# Altium integrated library BTL_Project.IntLib: 33 symbols
Pins are listed as number, name and electrical type; pins without a type are passive.

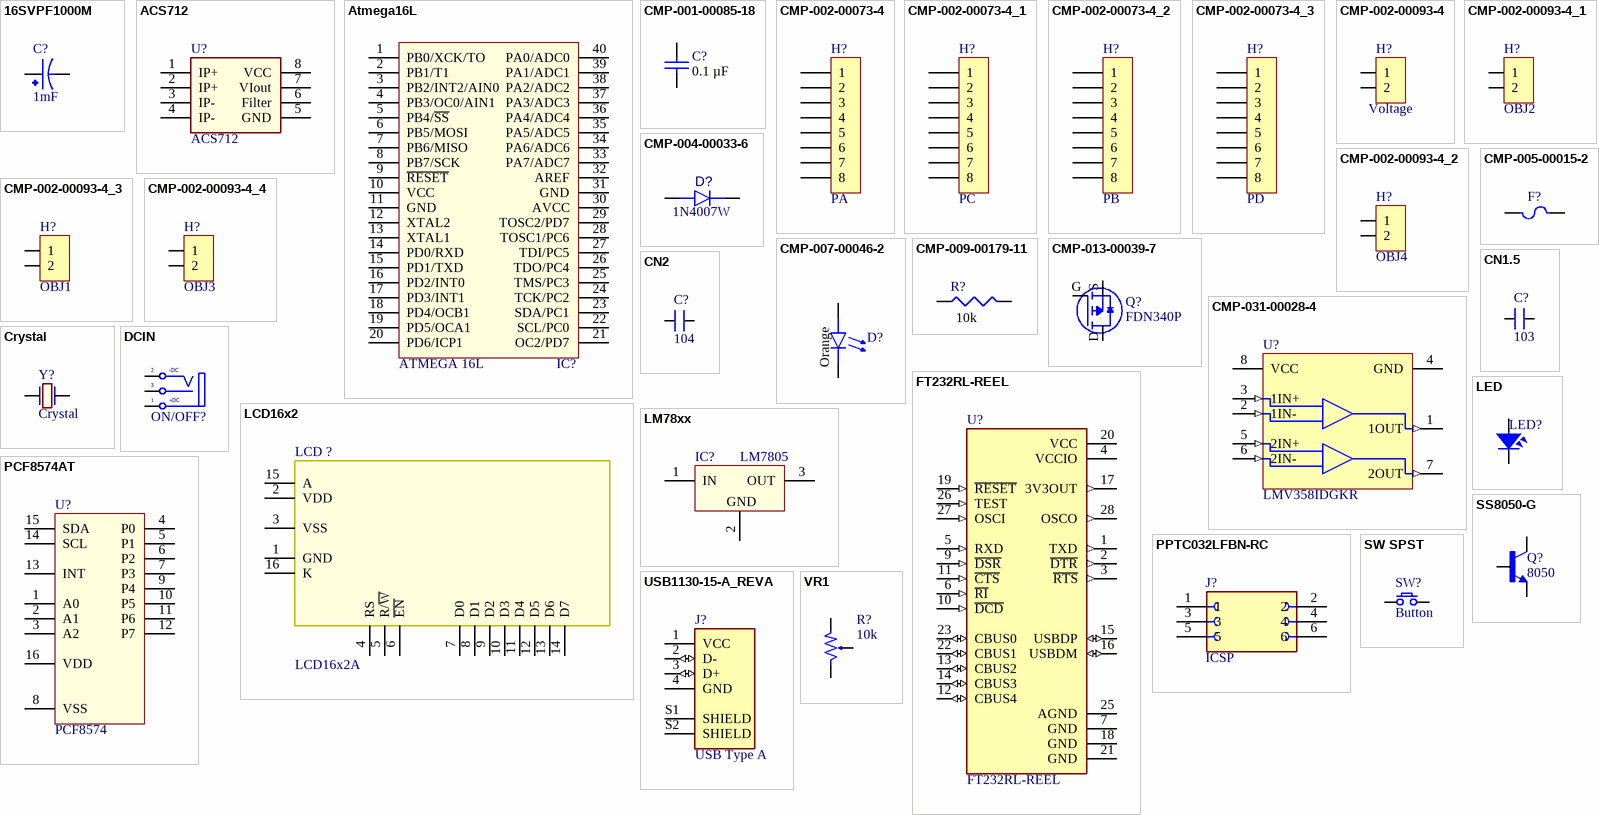
[diagram p0: symbols 16SVPF1000M to VR1]

## 16SVPF1000M
designator C?, comment 1mF
MP: 16SVPF1000M; Package: None; Availability: Unavailable; Price: None; Value: *
footprint CAP_16SVPF1000M
pins: 1, 2

## ACS712
designator U?
Fully Integrated, Hall Effect-Based Linear Current Sensor IC   with 2.1 kVRMS Isolation and a Low-Resistance Current Conductor
footprint SOIC-8 (SOIC, 8-Leads, Body 5.0x4.0mm (max), Pitch 1.27mm, IPC Medium Density)
pins: 1 IP+, 2 IP+, 3 IP-, 4 IP-, 5 GND, 6 Filter, 7 VIout, 8 VCC

## Atmega16L
designator IC?, comment ATMEGA 16L
8-Bit AVR Microcontroller with 16K Bytes of In-System Programmable Flash Memory; Value: Atmega 16L
footprint DIP40/W0.6 (40 PIN, W 600mil, Pin to pin 100mil)
pins: 1 PB0/XCK/TO, 2 PB1/T1, 3 PB2/INT2/AIN0, 4 PB3/OC0/AIN1, 5 PB4/~{SS}, 6 PB5/MOSI, 7 PB6/MISO, 8 PB7/SCK, 9 ~{RESET}, 10 VCC, 11 GND, 12 XTAL2, 13 XTAL1, 14 PD0/RXD, 15 PD1/TXD, 16 PD2/INT0, 17 PD3/INT1, 18 PD4/OCB1, 19 PD5/OCA1, 20 PD6/ICP1, 21 OC2/PD7, 22 SCL/PC0, 23 SDA/PC1, 24 TCK/PC2, 25 TMS/PC3, 26 TDO/PC4, 27 TDI/PC5, 28 TOSC1/PC6, 29 TOSC2/PD7, 30 AVCC, 31 GND, 32 AREF, 33 PA7/ADC7, 34 PA6/ADC6, 35 PA5/ADC5, 36 PA4/ADC4, 37 PA3/ADC3, 38 PA2/ADC2, 39 PA1/ADC1, 40 PA0/ADC0

## CMP-001-00085-18
designator C?, comment Capacitance: 0.1 µF  (hidden comment: Capacitor)
Oreki; Capacitor Type: non-polarity; Voltage - Rated: 16V; Tolerance: ±20%; Pins: 2; ComponentLink1Description: DigiKey; Component Type: Capacitors
footprint 0805 (2012 Metric) (Chip Capacitor, 2-Leads, Body 2.00x1.25mm, IPC Medium Density)
footprint CAPC0603X09N (Chip Capacitor, 2-Leads, Body 1.60x0.80mm, IPC Medium Density)
footprint CAPC0402X06N (Chip Capacitor, 2-Leads, Body 1.00x0.50mm, IPC Medium Density)
footprint 1206 (3216 Metric) (Chip Capacitor, 2-Leads, Body 3.25x1.60mm, IPC Medium Density)
pins: 1, 2

## CMP-002-00073-4
designator H?, comment PA
Oreki; ComponentLink1Description: DigiKey; ComponentLink2Description: thegioiic; Pins: 8; Component Type: Connectors
footprint male header 1x8-Footprint-1
footprint Female, Through Hole, Pitch 2.54mm
pins: 1, 2, 3, 4, 5, 6, 7, 8

## CMP-002-00073-4_1
designator H?, comment PC
Oreki; ComponentLink1Description: DigiKey; ComponentLink2Description: thegioiic; Pins: 8; Component Type: Connectors
footprint male header 1x8-Footprint-1
footprint Female, Through Hole, Pitch 2.54mm
pins: 1, 2, 3, 4, 5, 6, 7, 8

## CMP-002-00073-4_2
designator H?, comment PB
Oreki; ComponentLink1Description: DigiKey; ComponentLink2Description: thegioiic; Pins: 8; Component Type: Connectors
footprint male header 1x8-Footprint-1
footprint Female, Through Hole, Pitch 2.54mm
pins: 1, 2, 3, 4, 5, 6, 7, 8

## CMP-002-00073-4_3
designator H?, comment PD
Oreki; ComponentLink1Description: DigiKey; ComponentLink2Description: thegioiic; Pins: 8; Component Type: Connectors
footprint male header 1x8-Footprint-1
footprint Female, Through Hole, Pitch 2.54mm
pins: 1, 2, 3, 4, 5, 6, 7, 8

## CMP-002-00093-4
designator H?, comment Voltage
Oreki; ComponentLink1Description: DigiKey; ComponentLink2Description: thegioiic; Component Type: Connectors
footprint Barrier Block, Pitch 9.5mm
footprint Wire to Board, Pitch 5.00mm
pins: 1, 2

## CMP-002-00093-4_1
designator H?, comment OBJ2
Oreki; ComponentLink1Description: DigiKey; ComponentLink2Description: thegioiic; Component Type: Connectors
footprint Barrier Block, Pitch 9.5mm
footprint Wire to Board, Pitch 5.00mm
pins: 1, 2

## CMP-002-00093-4_2
designator H?, comment OBJ4
Oreki; ComponentLink1Description: DigiKey; ComponentLink2Description: thegioiic; Component Type: Connectors
footprint Barrier Block, Pitch 9.5mm
footprint Wire to Board, Pitch 5.00mm
pins: 1, 2

## CMP-002-00093-4_3
designator H?, comment OBJ1
Oreki; ComponentLink1Description: DigiKey; ComponentLink2Description: thegioiic; Component Type: Connectors
footprint Barrier Block, Pitch 9.5mm
footprint Wire to Board, Pitch 5.00mm
pins: 1, 2

## CMP-002-00093-4_4
designator H?, comment OBJ3
Oreki; ComponentLink1Description: DigiKey; ComponentLink2Description: thegioiic; Component Type: Connectors
footprint Barrier Block, Pitch 9.5mm
footprint Wire to Board, Pitch 5.00mm
pins: 1, 2

## CMP-004-00033-6
designator D?, comment Part Number: 1N4007W  (hidden comment: Diode)
Oreki; Current - Average Rectified (Io): 1A; Capacitance @ Vr, F: 15pF @ 4V, 1MHz; Voltage - DC Reverse (Vr) (Max): 1000 V; Voltage - Forward (Vf) (Max) @ If: 1.1 V @ 1 A; ComponentLink1Description: DigiKey; JLCPCB Part #: C108803; Component Type: Diodes
footprint SOD-80 (MELF Diode, 2-Leads, Body 3.45x1.40mm, IPC Medium Density)
footprint DO-214AC, SMA (Molded Diode, 2-Leads, Body 4.25x2.55mm, IPC Medium Density)
footprint DO-204AL, DO-41, Axial (SODFL, 2-Leads, Body 1.80x3.65mm, IPC Medium Density)
pins: 1 K, 2 A

## CMP-005-00015-2
designator F?, comment Fuse  (value not drawn)
Oreki; Part Number: MF-MSMF050-2; Voltage - Max: 15V; Current - Hold (Ih) (Max): 500 mA; Current - Trip (It): 1 A; Current - Max: 100 A; Time to Trip: 150 ms; Resistance - Initial (Ri) (Min): 150 mOhms; Resistance - Post Trip (R1) (Max): 1 Ohms; ComponentLink1Description: DigiKey; JLCPCB Part #: C17313; Component Type: Fuses
footprint 1812 (4532 Metric), Concave
pins: 1, 2

## CMP-007-00046-2
designator D?, comment Color: Orange  (hidden comment: LED Indication - Discrete)
Oreki; Part Number: 17-21SURC/S530-A3/4T; ComponentLink1Description: DigiKey; JLCPCB Part #: C2943978; Component Type: LED
footprint 0603 (1608 Metric) Green
footprint 0603 (1608 Metric) Yellow
footprint 0805 (2012 Metric) Green
footprint 0805 (2012 Metric) Orange
footprint 0805 (2012 Metric) Red
footprint 0805 (2012 Metric) White
footprint 0805 (2012 Metric) Yellow
pins: 1 K, 2 A

## CMP-009-00179-11
designator R?, comment Resistance: 10k  (hidden comment: Resistor)
Oreki; Tolerance: ±5%; Power: 0.125W, 1/8W; Mounting Technology: SMT; Case/Package: Chip; ComponentLink1Description: DigiKey; Pins: 2; RoHS Compliant: Yes; Component Type: Resistors
footprint 0805 (2012 Metric) (Chip Resistor, 2-Leads, Body 2.00x1.25mm, IPC Medium Density)
footprint 0603 (1608 Metric) (Chip Resistor, 2-Leads, Body 1.60x0.80mm, IPC Medium Density)
footprint RESC0402X04N (Chip Resistor, 2-Leads, Body 1.00x0.50mm, IPC Medium Density)
pins: 1, 2
1 alternate drawing of the same symbol

## CMP-013-00039-7
designator Q?, comment Part Number: FDN340P  (hidden comment: Mosfet)
Oreki; Current - Continuous Drain (Id) @ 25°C: 2A (Ta); Rds On (Max) @ Id, Vgs: 70mOhm @ 2A, 4.5V; Vgs(th) (Max) @ Id: 1.5V @ 250µA; ComponentLink1Description: DigiKey; Component Type: Transistors
footprint 6-TSSOP, SC-88, SOT-363 (TSOP, 6-Leads, Body 2.00x1.25mm, Pitch 0.65mm, IPC Medium Density)
footprint TO-236-3, SC-59, SOT-23-3 (SOT23, 3-Leads, Body 2.90x2.40mm, Pitch 0.95mm, IPC Medium Density)
pins: D, G, S

## CMP-031-00028-4
designator U?, comment Part Number: LMV358IDGKR  (hidden comment: LMV358)
Oreki; JLCPCB Part #: C5145253; ComponentLink1Description: DigiKey; Component Type: Integrated Circuits
footprint 8-TSSOP, 8-MSOP (TSOP, 8-Leads, Body 3.00x3.00mm, Pitch 0.65mm, IPC Medium Density)
pins: 1 1OUT (out), 2 1IN- (in), 3 1IN+ (in), 4 GND, 5 2IN+ (in), 6 2IN- (in), 7 2OUT (out), 8 VCC

## CN1.5
designator C?, comment 103
Cap np 682pF => 104pF; Value: 0.01uF
footprint CN1.5
pins: 1, 2

## CN2
designator C?, comment 104
Cap np 104 => 105pF; Value: 0.1uF
footprint CN2
pins: 1, 2

## Crystal
designator Y?
Value: 8MHz
footprint Crystal DIP-2 (Available for crystal 32.768kHz)
footprint Crystal HC49S DIP
footprint Crystal HC49US SMD
footprint Crystal SMD 4PIN 32x25; pin to pad 2>3
footprint Crystal 3215 (Crystal 3.2mm x 1.5mm SMD)
pins: 1, 2

## DCIN
designator ON/OFF?, comment POWER  (value not drawn)
footprint DC-IN (Jac DC input)
footprint PJ-031D (Power Header 1mm)
pins: 1 T "Tip", 2 TN "Tip Normal (Break Contact)", 3 S (power) "Sleeve (Ground)"
text: -DC; +DC

## FT232RL-REEL
designator U?
USB Bridge, USB to UART USB 2.0 UART Interface 28-SSOP; MF: FTDI,; Check_prices: https://www.snapeda.com/parts/FT232RL-REEL/FTDI%252C+Future+Technology+Devices+International+Ltd/view-part/?ref=eda; Purchase-URL: https://pricing.snapeda.com/search/part/FT232RL-REEL/?ref=eda; Price: None; SnapEDA_Link: https://www.snapeda.com/parts/FT232RL-REEL/FTDI%252C+Future+Technology+Devices+International+Ltd/view-part/?ref=snap; Availability: In Stock; Package: SSOP-28 FTDI; MP: FT232RL-REEL; Value: *
footprint SOP65P780X200-28N
pins: 1 TXD (out), 2 ~{DTR} (out), 3 ~{RTS} (out), 4 VCCIO (power), 5 RXD (in), 6 ~{RI} (in), 7 GND (power), 9 ~{DSR} (in), 10 ~{DCD} (in), 11 ~{CTS} (in), 12 CBUS4 (io), 13 CBUS2 (io), 14 CBUS3 (io), 15 USBDP (io), 16 USBDM (io), 17 3V3OUT (out), 18 GND (power), 19 ~{RESET} (in), 20 VCC (power), 21 GND (power), 22 CBUS1 (io), 23 CBUS0 (io), 25 AGND (power), 26 TEST (in), 27 OSCI (in), 28 OSCO (out)

## LCD16x2
designator LCD ?, comment LCD16x2A
LCD dipslay 16 char, 2 line; Value: LCD16x2A
footprint LCD16X2N (LCD dipslay 16x2, 16 pin)
footprint LCD16X2 (LCD dipslay 16x2, 16 pin)
pins: 1 GND, 2 VDD, 3 VSS, 4 RS, 5 R/~{W}, 6 ~{EN}, 7 D0, 8 D1, 9 D2, 10 D3, 11 D4, 12 D5, 13 D6, 14 D7, 15 A, 16 K

## LED
designator LED?  (value not drawn)
LED Single colour Green and Red; Value: LED 3 ly Single Colour
footprint LED-5-BLUE (LED 2 PIN, 5 ly , Only colour, pin to pin 110mil)
footprint LED-5-Green (LED 2 PIN, 5 ly , Only colour,pin to pin 100mil)
footprint LED-5-RED (LED 2 PIN, 5 ly , Only colour,pin to pin 100mil)
footprint LED-5-WHITE (LED 2 PIN, 5 ly , Only colour, pin to pin 110mil)
footprint LED-5-Yellow (LED 2 PIN, 5 ly , Only colour,pin to pin 100mil)
footprint LED-3 (LED 2 PIN, 3ly Only colour)
pins: 1, 2

## LM78xx
designator IC?, comment LM7805
On ap +, from + 5 to + 24VDC; Value: LM7805
footprint QTO-220 (TO-220 - 1-2-3)
footprint QTO-92 (TO-92)
footprint QTO-220H1 (TO-220 - 1-2-3)
footprint TO-252 (D-PAK/TO-252-AA; 3 Leads (1 Cropped); Body 10.3 (inc. leads) x 6.7 mm (LxW max))
pins: 1 IN, 2 GND, 3 OUT

## PCF8574AT
designator U?, comment PCF8574
Remote 8-bit I/O expander for I2C-bus with interrupt; PART NO: PCF8574AT/3; BRAND: NXP; PACKAGE: SO16; TYPE: SMD
footprint SO16/PCF8574AT
pins: 1 A0, 2 A1, 3 A2, 4 P0, 5 P1, 6 P2, 7 P3, 8 VSS, 9 P4, 10 P5, 11 P6, 12 P7, 13 INT, 14 SCL, 15 SDA, 16 VDD

## PPTC032LFBN-RC
designator J?, comment ICSP
6 Position Header Connector 0.100 (2.54mm) Through Hole Tin; MF: Sullins Connector Solutions; MP: PPTC032LFBN-RC; Package: None; Price: None; Value: *; SnapEDA_Link: https://www.snapeda.com/parts/PPTC032LFBN-RC/Sullins+Connector+Solutions/view-part/?ref=snap; Availability: Not in stock; Check_prices: https://www.snapeda.com/parts/PPTC032LFBN-RC/Sullins+Connector+Solutions/view-part/?ref=eda
footprint SULLINS_PPTC032LFBN-RC
pins: 1, 2, 3, 4, 5, 6

## SS8050-G
designator Q?, comment 8050
Bipolar (BJT) Transistor NPN 25 V 1.5 A 100MHz 300 mW Surface Mount SOT-23-3; MP: SS8050G; MF: Comchip; Digi-Key_Part_Number: 641-1790-2-ND; Check_prices: https://www.snapeda.com/parts/SS8050G/Comchip/view-part/?ref=eda; Package: None; SnapEDA_Link: https://www.snapeda.com/parts/SS8050G/Comchip/view-part/?ref=snap; Value: *
footprint TRANS_SS8050-G
pins: 1 B, 2 E, 3 C

## SW SPST
designator SW?, comment Button
Tact switch 2 pin
footprint SW/2/DIP
footprint SW/2/SMD
footprint SW/2/SMD/Micro
footprint SW/4/SMD
footprint SW/2/DIP/Edge/4.5mm
footprint SW/4/SMD/XS
pins: 1, 2

## USB1130-15-A_REVA
designator J?, comment USB Type A
USB 2.0 Connector Full size Horizontal Plug, type A, 4 Pins, Through hole, Top mount, 6.99mm profile, High mating cycle, charging receptacle; MP: USB1130-15-A; MF: Global Connector Technology; Price: None; Availability: In Stock; Package: None; Value: *; SnapEDA_Link: https://www.snapeda.com/parts/USB1130-15-A/Global+Connector+Technology/view-part/?ref=snap; Purchase-URL: https://pricing.snapeda.com/search/part/USB1130-15-A/?ref=eda; Check_prices: https://www.snapeda.com/parts/USB1130-15-A/Global+Connector+Technology/view-part/?ref=eda
footprint GCT_USB1130-15-A_REVA
pins: 1 VCC (power), 2 D- (io), 3 D+ (io), 4 GND (power), S1 SHIELD, S2 SHIELD

## VR1
designator R?, comment 10k
Var Resistor; Value: VR 10K
footprint VR1 (Variable Resistor)
footprint VR (Resistor Variable)
footprint VR2
pins: 1, 2, 3